# Altium schematic symbol library 56.6mm_Heat_Sink_60x11x20.SchLib: 1 symbol
Pins are listed as number, name and electrical type; pins without a type are passive.

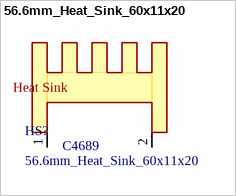
[diagram p0: symbol 56.6mm_Heat_Sink_60x11x20]

## 56.6mm_Heat_Sink_60x11x20
designator HS?  LCSC: C4689
IPP80R360P7_C4689 56.6mm_Heat_Sink_60x11x20
footprint 56.6mm_Heat_Sink_60x11x20
pins: 1, 2
text: Heat Sink